# Altium footprint library RESC6432X75N.PcbLib: 1 footprints
Each footprint in its own frame and in the unit in brackets; x right, y up, seen from the top. Pads: shape width x height; smd on the part's side, far side on the other; paste and mask are expansions set on the pad; w line width, h text height; cw(c..) or ccw(c..) is an arc to the next point about the centre after c.
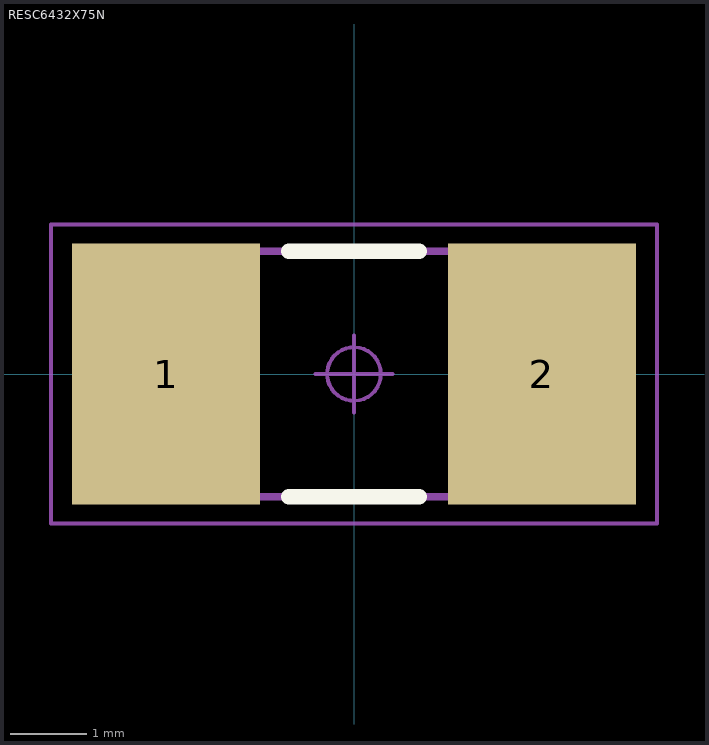
[diagram p0: the footprint, top view; thin cyan lines are the x and y axes]

## RESC6432X75N [mm] "Resistor, Chip; 6.40mm L X 3.20mm W X 0.75mm H , IPC Medium Density"
height 0.75
pads (2):
  rect 2.45x3.4 smd: 1(-2.45,0) 2(2.45,0)
Top Overlay:
  lines w0.2: -0.85,-1.6 0.85,-1.6 ; -0.85,1.6 0.85,1.6
Mechanical 14:
  lines w0.1: -3.2,-1.6 3.2,-1.6 3.2,1.6 -3.2,1.6 -3.2,-1.6
Mechanical 15:
  circle w0.05: c0,0 r0.35
  lines w0.05: -0.5,0 0.5,0 ; 0,-0.5 0,0.5 ; -3.95,-1.95 3.95,-1.95 3.95,1.95 -3.95,1.95 -3.95,-1.95
3D body "RESC6432X75N.stp": height 0.75, standoff 0, extent -3.2,-1.6 3.2,1.6